# Altium schematic symbol library VCB20.SchLib: 7 symbols
Pins are listed as number, name and electrical type; pins without a type are passive.

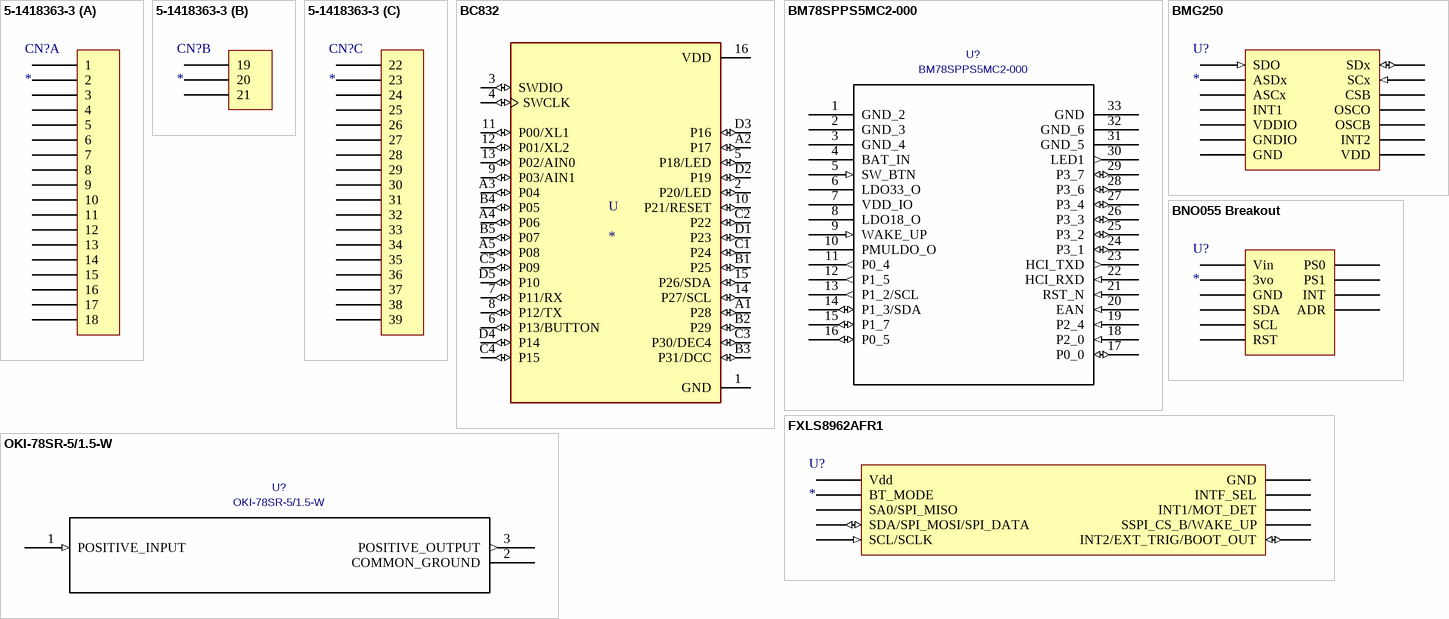
[diagram p0: symbols 5-1418363-3 to OKI-78SR-5/1.5-W]

## 5-1418363-3
designator CN?
Levyseal 90 degree 39 pin header
footprint 5-1418363-3 (Levyseal 90 degree 39 pin header)
part A pins: 1, 2, 3, 4, 5, 6, 7, 8, 9, 10, 11, 12, 13, 14, 15, 16, 17, 18
part B pins: 19, 20, 21
part C pins: 22, 23, 24, 25, 26, 27, 28, 29, 30, 31, 32, 33, 34, 35, 36, 37, 38, 39

## BC832
designator U
Bluetooth Bluetooth v5.0 Transceiver Module 2.4GHz Integrated, Chip Surface Mount; MP: BC832; MF: Fanstel Corp.; SnapEDA_Link: https://www.snapeda.com/parts/BC832/Fanstel%20Corp./view-part/2754499/?ref=snap; Price: None; Availability: Unavailable; Value: *; Package: Module Fanstel Corp.
footprint XCVR_BC832
pins: 1 GND (power), 2 P20/LED (io), 3 SWDIO (io), 4 SWCLK (io), 5 P18/LED (io), 6 P13/BUTTON (io), 7 P11/RX (io), 8 P12/TX (io), 9 P03/AIN1 (io), 10 P21/RESET (io), 11 P00/XL1 (io), 12 P01/XL2 (io), 13 P02/AIN0 (io), 14 P27/SCL (io), 15 P26/SDA (io), 16 VDD (power), A1 P28 (io), A2 P17 (io), A3 P04 (io), A4 P06 (io), A5 P08 (io), B1 P25 (io), B2 P29 (io), B3 P31/DCC (io), B4 P05 (io), B5 P07 (io), C1 P24 (io), C2 P22 (io), C3 P30/DEC4 (io), C4 P15 (io), C5 P09 (io), D1 P23 (io), D2 P19 (io), D3 P16 (io), D4 P14 (io), D5 P10 (io)

## BM78SPPS5MC2-000
designator U?
Mfr_Name: Microchip; Manufacturer_Part_Number: BM78SPPS5MC2-0006AA; C: Copyright (C) 2021 Accelerated Designs. All rights reserved; Value: BM78SPPS5MC2-000; Copyright: Copyright (C) 2022 Ultra Librarian. All rights reserved.; Digi-Key_Part_Number_1: 150-BM78SPPS5MC2-0006AA-ND
footprint BM78SPPS5MC2/NC2
pins: 1 GND_2 (power), 2 GND_3 (power), 3 GND_4 (power), 4 BAT_IN (power), 5 SW_BTN (in), 6 LDO33_O (power), 7 VDD_IO (power), 8 LDO18_O (power), 9 WAKE_UP (in), 10 PMULDO_O (power), 11 P0_4 (out), 12 P1_5 (out), 13 P1_2/SCL (out), 14 P1_3/SDA (io), 15 P1_7 (io), 16 P0_5 (io), 17 P0_0 (io), 18 P2_0 (in), 19 P2_4 (in), 20 EAN (in), 21 RST_N (in), 22 HCI_RXD (in), 23 HCI_TXD (out), 24 P3_1 (io), 25 P3_2 (io), 26 P3_3 (io), 27 P3_4 (io), 28 P3_6 (io), 29 P3_7 (io), 30 LED1 (out), 31 GND_5 (power), 32 GND_6 (power), 33 GND (power)

## BMG250
designator U?
3 Axis Gyroscope
footprint BMG250 (Gyroscope, 3axis)
pins: 1 SDO (in), 2 ASDx, 3 ASCx, 4 INT1, 5 VDDIO (power), 6 GNDIO (power), 7 GND (power), 8 VDD (power), 9 INT2, 10 OSCB, 11 OSCO, 12 CSB, 13 SCx (in), 14 SDx (io)

## BNO055 Breakout
designator U?
pins: 1 Vin, 2 3vo, 3 GND, 4 SDA, 5 SCL, 6 RST, 7 PS0, 8 PS1, 9 INT, 10 ADR

## FXLS8962AFR1
designator U?
3 axis accelerometer
footprint FXLS8962AFR1 (Accelerometer)
pins: 1 Vdd (power), 2 BT_MODE, 3 SA0/SPI_MISO, 4 SDA/SPI_MOSI/SPI_DATA (io), 5 SCL/SCLK (in), 6 INT2/EXT_TRIG/BOOT_OUT (io), 7 SSPI_CS_B/WAKE_UP, 8 INT1/MOT_DET, 9 INTF_SEL, 10 GND (power)

## OKI-78SR-5/1.5-W
designator U?
Mfr_Name: Murata; Manufacturer_Part_Number: OKI-78SR-5/1.5-W36E-C; C: Copyright (C) 2018 Accelerated Designs. All rights reserved; Value: OKI-78SR-5/1.5-W; Copyright: Copyright (C) 2022 Ultra Librarian. All rights reserved.; Digi-Key_Part_Number_1: 811-3292-ND
footprint OKI-78SR-5/1.5-W
pins: 1 POSITIVE_INPUT (in), 2 COMMON_GROUND (power), 3 POSITIVE_OUTPUT (out)